# EAGLE library part HMC408LP3E (library SamacSys_Parts)
RF Amplifier 1 Watt pow amp SMT, 5.1 - 5.9 GHz Source: Datasheet <https://componentsearchengine.com/Datasheets/1/HMC408LP3E.pdf>
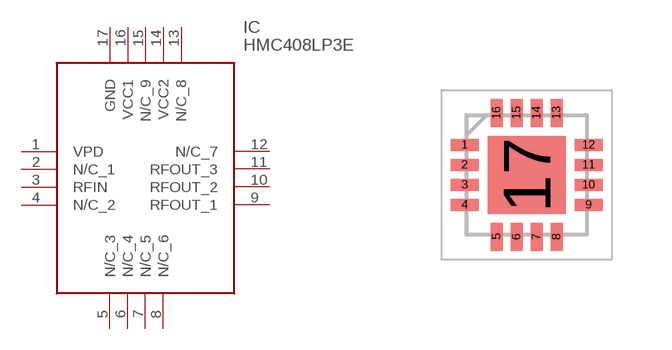
[diagram p2: symbol with the pads of QFN50P300X300X100-17N; footprint QFN50P300X300X100-17N]

Designator prefix IC

## HMC408LP3E (DESCRIPTION: RF Amplifier 1 Watt pow amp SMT, 5.1 - 5.9 GHz; HEIGHT: 1mm; MANUFACTURER_NAME: Analog Devices; MANUFACTURER_PART_NUMBER: HMC408LP3E; MOUSER_PART_NUMBER: 584-HMC408LP3E; MOUSER_PRICE-STOCK: https://www.mouser.com/Search/Refine.aspx?Keyword=584-HMC408LP3E)  [QFN50P300X300X100-17N]
1  VPD
2  N/C_1
3  RFIN
4  N/C_2
5  N/C_3
6  N/C_4
7  N/C_5
8  N/C_6
9  RFOUT_1
10  RFOUT_2
11  RFOUT_3
12  N/C_7
13  N/C_8
14  VCC2
15  N/C_9
16  VCC1
17  GND

## Footprint QFN50P300X300X100-17N (pad centres in mm)
QFN-2021
smd 0.7 x 0.3: 1 -1.55,0.75; 2 -1.55,0.25; 3 -1.55,-0.25; 4 -1.55,-0.75; 9 1.55,-0.75; 10 1.55,-0.25; 11 1.55,0.25; 12 1.55,0.75
smd 0.3 x 0.7: 5 -0.75,-1.55; 6 -0.25,-1.55; 7 0.25,-1.55; 8 0.75,-1.55; 13 0.75,1.55; 14 0.25,1.55; 15 -0.25,1.55; 16 -0.75,1.55
smd 1.95 x 1.95: 17 0,0